# Altium schematic symbol library jlcpcb_FET_extended.schlib: 1 symbol
Pins are listed as number, name and electrical type; pins without a type are passive.

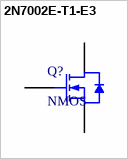
[diagram p0: symbol 2N7002E-T1-E3]

## 2N7002E-T1-E3
designator Q?, comment NMOS
60V 240mA 3Ω@10V,250mA 350mW N Channel SOT-23(TO-236) MOSFETs ROHS; Manufacturer Part Number: 2N7002E-T1-E3; JLCPCB Part Number: C183027; JLCPCB Basic Part: no
footprint SOT23-3
pins: 1 G, 2 S, 3 D